# EAGLE library part 4068BD (library EW_IC_74_Logic)
8-input Nand gate. Category: Gates Manufacturer: Generic
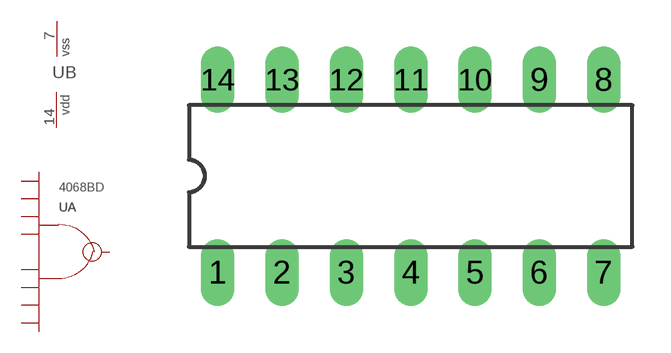
[diagram p95: symbol with the pads of DIL14; footprint DIL14]

Designator prefix U; gates A=NAND_8 B=PWRN_1

## 4068BD  [DIL14]
2  A:A  pwr
3  A:B  pwr
4  A:C  pwr
5  A:D  pwr
7  B:VSS  pwr
9  A:E  pwr
10  A:F  pwr
11  A:G  pwr
12  A:H  pwr
13  A:Y  pwr
14  B:VDD  pwr

## Footprint DIL14 (pad centres in mm)
SOCKET Dual In Line
drill 0.813 long: 1 -7.62,-3.81; 2 -5.08,-3.81; 3 -2.54,-3.81; 4 0,-3.81; 5 2.54,-3.81; 6 5.08,-3.81; 7 7.62,-3.81; 8 7.62,3.81; 9 5.08,3.81; 10 2.54,3.81; 11 0,3.81; 12 -2.54,3.81; 13 -5.08,3.81; 14 -7.62,3.81